# Altium integrated library Linear Technology Power Management uModule Regulators.IntLib: 166 symbols (part 38 of 67)
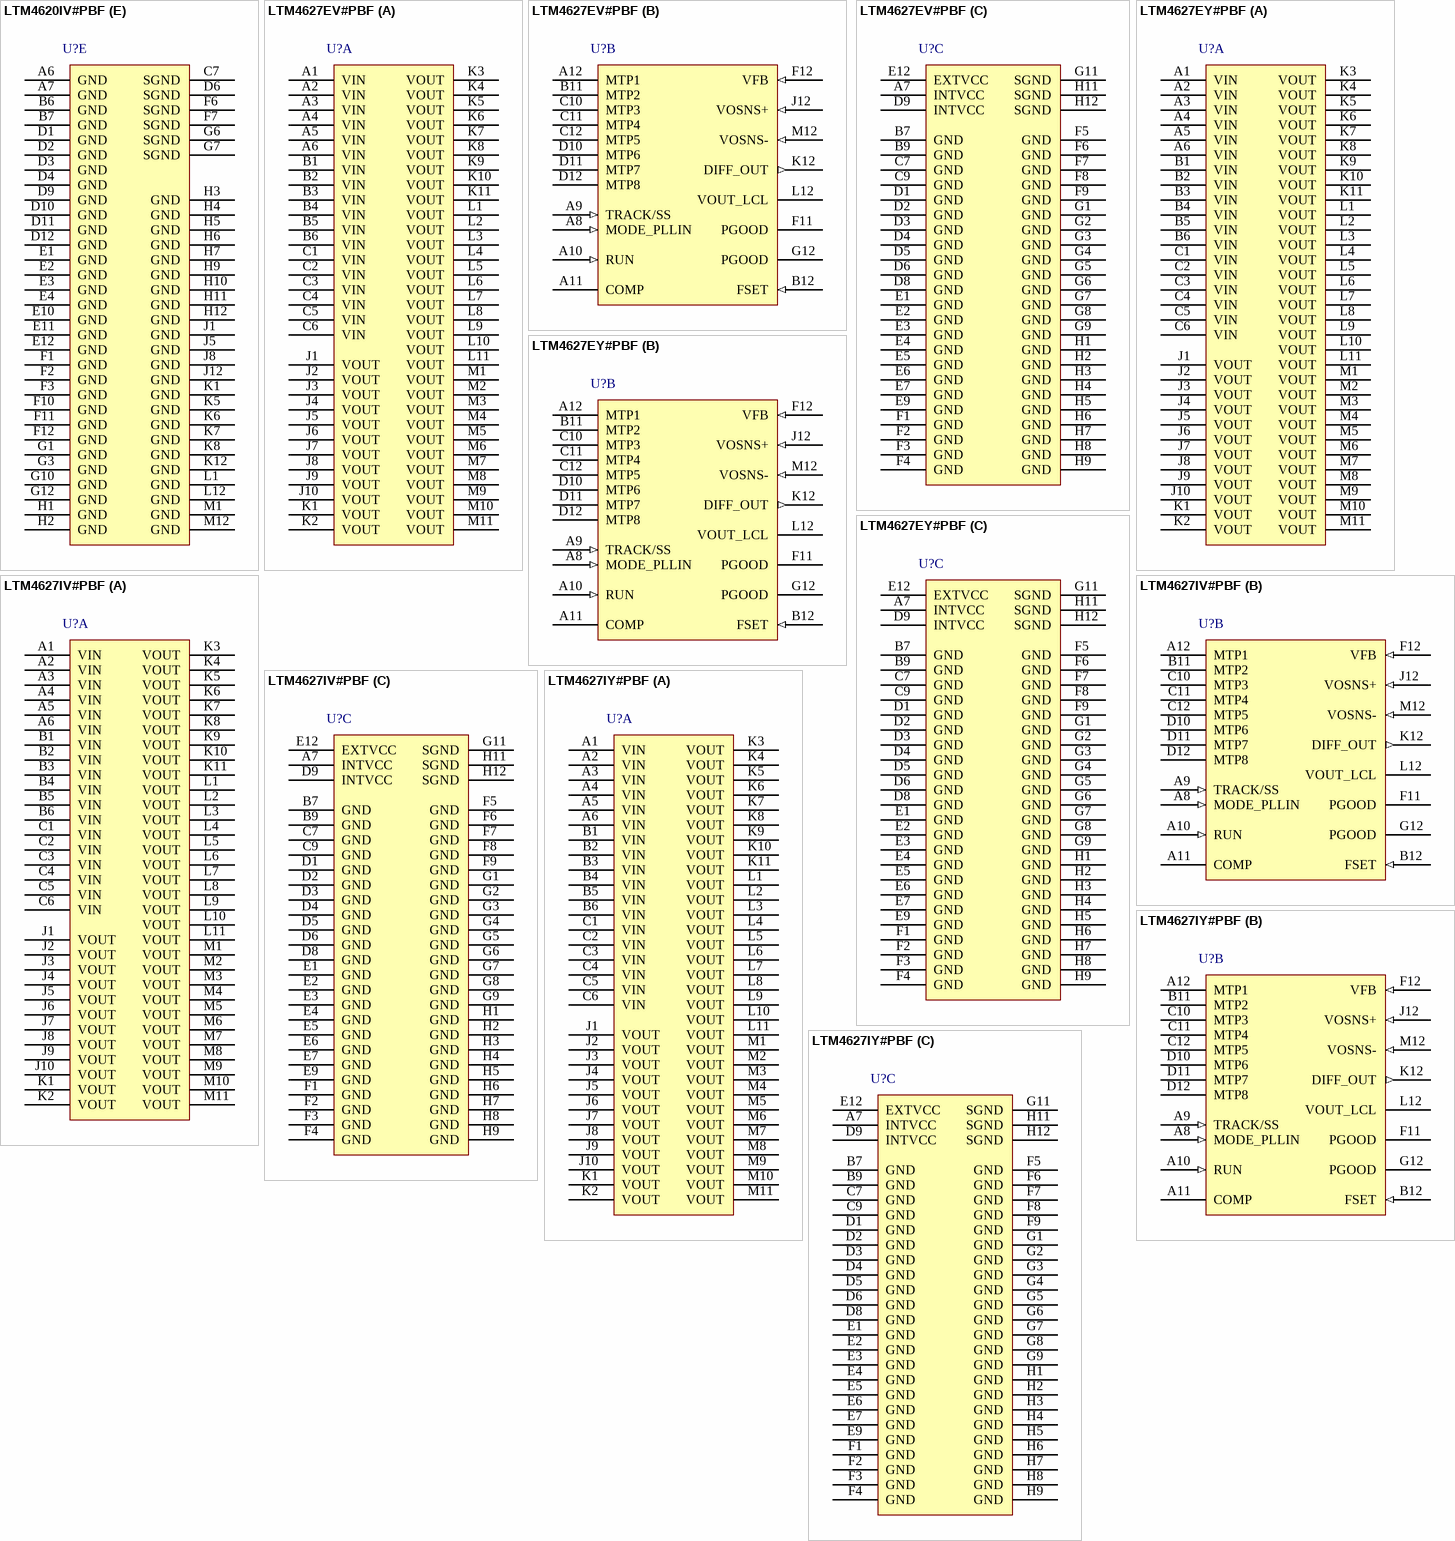
[diagram p64: symbols LTM4620IV#PBF to LTM4627IY#PBF]

## LTM4627EV#PBF
designator U?
15 A DC/DC uModule Regulator, 133-pin LGA, -40 to 125 degC, Pb-Free, Tray; Manufacturer: Linear Technology; PartNumber: LTM4627EV#PBF; Extended Temp: E, I, MP; Frequency Adjust Range: 250kHz - 800kHz; Frequency Sync Range: 400kHz - 800kHz; Frequency(kHz): 500; Ishutdown(uA): 40; Isupply(mA): 17; Number of Outputs: 1; Output Current(A): 15; Switch Current(A): 50; Synchronous: yes; Topology: Buck; Vin Max(V): 20; Vin Min(V): 4.5; Vout Max(V): 5; Vout Min(V): 0.6; DatasheetVersion: Rev. B; PackageVersion: Rev. A, 02/2013; PackageReference: LGA-133; PackageDescription: 133-Pin LGA, Body 15 x 15 mm, Pitch 1.27 mm; Supplier 1: Digi-Key; Supplier Part Number 1: LTM4627EV#PBF-ND; Supplier 2: Farnell; Supplier Part Number 2: 1847469; Supplier 3: Newark; Supplier Part Number 3: 99R2730; Packing: Tray; RoHS: TRUE; Mounting Technology: Surface Mount; Code_JEDEC: MO-222; ComponentLink1Description: Manufacturer URL; ComponentLink1URL: http://www.linear.com/; ComponentLink2Description: Datasheet; ComponentLink2URL: http://cds.linear.com/docs/en/datasheet/4627fb.pdf; ComponentLink3Description: Package Specification; ComponentLink3URL: http://cds.linear.com/docs/en/packaging/05081777_A_lga133.pdf
footprint LT-LGA-133-05-08-1777_V (LGA, 133-Leads, Body 15x15mm, Pitch 1.27mm)
part A pins: A1 VIN (power) "Power Input Pins.", A2 VIN (power) "Power Input Pins.", A3 VIN (power) "Power Input Pins.", A4 VIN (power) "Power Input Pins.", A5 VIN (power) "Power Input Pins.", A6 VIN (power) "Power Input Pins.", B1 VIN (power) "Power Input Pins. Apply input voltage between these pins and GND pins.", B2 VIN (power) "Power Input Pins. Apply input voltage between these pins and GND pins.", B3 VIN (power) "Power Input Pins. Apply input voltage between these pins and GND pins.", B4 VIN (power) "Power Input Pins. Apply input voltage between these pins and GND pins.", B5 VIN (power) "Power Input Pins. Apply input voltage between these pins and GND pins.", B6 VIN (power) "Power Input Pins. Apply input voltage between these pins and GND pins.", C1 VIN (power) "Power Input Pins. Apply input voltage between these pins and GND pins.", C2 VIN (power) "Power Input Pins. Apply input voltage between these pins and GND pins.", C3 VIN (power) "Power Input Pins. Apply input voltage between these pins and GND pins.", C4 VIN (power) "Power Input Pins. Apply input voltage between these pins and GND pins.", C5 VIN (power) "Power Input Pins. Apply input voltage between these pins and GND pins.", C6 VIN (power) "Power Input Pins. Apply input voltage between these pins and GND pins.", J1 VOUT (power) "Power Output Pins. Apply output load between these pins and GND pins.", J2 VOUT (power) "Power Output Pins. Apply output load between these pins and GND pins.", J3 VOUT (power) "Power Output Pins. Apply output load between these pins and GND pins.", J4 VOUT (power) "Power Output Pins. Apply output load between these pins and GND pins.", J5 VOUT (power) "Power Output Pins. Apply output load between these pins and GND pins.", J6 VOUT (power) "Power Output Pins. Apply output load between these pins and GND pins.", J7 VOUT (power) "Power Output Pins. Apply output load between these pins and GND pins.", J8 VOUT (power) "Power Output Pins. Apply output load between these pins and GND pins.", J9 VOUT (power) "Power Output Pins. Apply output load between these pins and GND pins.", J10 VOUT (power) "Power Output Pins. Apply output load between these pins and GND pins.", K1 VOUT (power) "Power Output Pins. Apply output load between these pins and GND pins.", K2 VOUT (power) "Power Output Pins. Apply output load between these pins and GND pins.", K3 VOUT (power) "Power Output Pins. Apply output load between these pins and GND pins.", K4 VOUT (power) "Power Output Pins. Apply output load between these pins and GND pins.", K5 VOUT (power) "Power Output Pins. Apply output load between these pins and GND pins.", K6 VOUT (power) "Power Output Pins. Apply output load between these pins and GND pins.", K7 VOUT (power) "Power Output Pins. Apply output load between these pins and GND pins.", K8 VOUT (power) "Power Output Pins. Apply output load between these pins and GND pins.", K9 VOUT (power) "Power Output Pins. Apply output load between these pins and GND pins.", K10 VOUT (power) "Power Output Pins. Apply output load between these pins and GND pins.", K11 VOUT (power) "Power Output Pins. Apply output load between these pins and GND pins.", L1 VOUT (power) "Power Output Pins. Apply output load between these pins and GND pins.", L2 VOUT (power) "Power Output Pins. Apply output load between these pins and GND pins.", L3 VOUT (power) "Power Output Pins. Apply output load between these pins and GND pins.", L4 VOUT (power) "Power Output Pins. Apply output load between these pins and GND pins.", L5 VOUT (power) "Power Output Pins. Apply output load between these pins and GND pins.", L6 VOUT (power) "Power Output Pins. Apply output load between these pins and GND pins.", L7 VOUT (power) "Power Output Pins. Apply output load between these pins and GND pins.", L8 VOUT (power) "Power Output Pins. Apply output load between these pins and GND pins.", L9 VOUT (power) "Power Output Pins. Apply output load between these pins and GND pins.", L10 VOUT (power) "Power Output Pins. Apply output load between these pins and GND pins.", L11 VOUT (power) "Power Output Pins. Apply output load between these pins and GND pins.", M1 VOUT (power) "Power Output Pins. Apply output load between these pins and GND pins.", M2 VOUT (power) "Power Output Pins. Apply output load between these pins and GND pins.", M3 VOUT (power) "Power Output Pins. Apply output load between these pins and GND pins.", M4 VOUT (power) "Power Output Pins. Apply output load between these pins and GND pins.", M5 VOUT (power) "Power Output Pins. Apply output load between these pins and GND pins.", M6 VOUT (power) "Power Output Pins. Apply output load between these pins and GND pins.", M7 VOUT (power) "Power Output Pins. Apply output load between these pins and GND pins.", M8 VOUT (power) "Power Output Pins. Apply output load between these pins and GND pins.", M9 VOUT (power) "Power Output Pins. Apply output load between these pins and GND pins.", M10 VOUT (power) "Power Output Pins. Apply output load between these pins and GND pins.", M11 VOUT (power) "Power Output Pins. Apply output load between these pins and GND pins."
part B pins: A8 MODE_PLLIN (in) "Forced Continuous Mode, Burst Mode Operation, or Pulse-Skipping Mode Selection Pin and External Synchronization Input to Phase Detector Pin.", A9 TRACK/SS (in), A10 RUN (in) "Run Control Pin. A voltage above 1.4V will turn on the module. A 5.1V Zener diode to ground is internal to the module for limiting the voltage on the RUN pin to 5V, and allowing a pull up resistor to VIN for enabling the (See Datasheet)", A11 COMP "Current Control Threshold and Error Amplifier Compensation Point. The current comparator threshold increases with this control voltage. Tie all COMP pins together for parallel operation. The device is internally compensated.", A12 MTP1 "Extra mounting pads used for increased solder integrity strength.", B11 MTP2 "Extra mounting pads used for increased solder integrity strength.", B12 FSET (in) "A resistor can be applied from this pin to ground to set the operating frequency, or a DC voltage can be applied to set the frequency. See the Applications Information section.", C10 MTP3 "Extra mounting pads used for increased solder integrity strength.", C11 MTP4 "Extra mounting pads used for increased solder integrity strength.", C12 MTP5 "Extra mounting pads used for increased solder integrity strength.", D10 MTP6 "Extra mounting pads used for increased solder integrity strength.", D11 MTP7 "Extra mounting pads used for increased solder integrity strength.", D12 MTP8 "Extra mounting pads used for increased solder integrity strength.", F11 PGOOD (oc) "Output Voltage Power Good Indicator.", F12 VFB (in) "The Negative Input of the Error Amplifier. Internally, this pin is connected to VOUT_LCL with a 60.4k precision resistor. Different output voltages can be programmed with an additional resistor between the VFB and GND pins. (See Datasheet)", G12 PGOOD (oc) "Output Voltage Power Good Indicator.", J12 VOSNS+ (in) "(+) Input to the Remote Sense Amplifier. This pin connects to the output remote sense point. The remote sense amplifier is used for VOUT <= 3.3V. Connect to ground when not used.", K12 DIFF_OUT (out) "Output of the Remote Sense Amplifier. This pin connects to the VOUT_LCL pin for remote sense applications. Otherwise float when not used.", L12 VOUT_LCL "This pin connects to VOUT through a 1M resistor and to VFB with a 60.4k resistor. The remote sense amplifier output DIFFVOUT is connected to VOUT_LCL, and drives the 60.4k top feedback resistor in remote sensing applications.(See Datasheet)", M12 VOSNS- (in) "(-) Input to the Remote Sense Amplifier. This pin connects to the ground remote sense point. The remote sense amplifier is used for VOUT = 3.3V. Connect to ground when not used."
part C pins: A7 INTVCC (power) "Internal 5V LDO for Driving the Control Circuitry and the Power MOSFET Drivers. Both pins are internally connected.", B7 GND (power) "Power Ground Pins for Both Input and Output Returns.", B9 GND (power) "Power Ground Pins for Both Input and Output Returns.", C7 GND (power) "Power Ground Pins for Both Input and Output Returns.", C9 GND (power) "Power Ground Pins for Both Input and Output Returns.", D1 GND (power) "Power Ground Pins for Both Input and Output Returns.", D2 GND (power) "Power Ground Pins for Both Input and Output Returns.", D3 GND (power) "Power Ground Pins for Both Input and Output Returns.", D4 GND (power) "Power Ground Pins for Both Input and Output Returns.", D5 GND (power) "Power Ground Pins for Both Input and Output Returns.", D6 GND (power) "Power Ground Pins for Both Input and Output Returns.", D8 GND (power) "Power Ground Pins for Both Input and Output Returns.", D9 INTVCC (power) "Internal 5V LDO for Driving the Control Circuitry and the Power MOSFET Drivers. Both pins are internally connected.", E1 GND (power) "Power Ground Pins for Both Input and Output Returns.", E2 GND (power) "Power Ground Pins for Both Input and Output Returns.", E3 GND (power) "Power Ground Pins for Both Input and Output Returns.", E4 GND (power) "Power Ground Pins for Both Input and Output Returns.", E5 GND (power) "Power Ground Pins for Both Input and Output Returns.", E6 GND (power) "Power Ground Pins for Both Input and Output Returns.", E7 GND (power) "Power Ground Pins for Both Input and Output Returns.", E9 GND (power) "Power Ground Pins for Both Input and Output Returns.", E12 EXTVCC (power) "External power input to an internal control switch allows an external source greater than 4.7V, but less than 6V to supply IC power and bypass the internal INTVCC LDO. EXTVCC must be less than VIN at all times during (See Datasheet)", F1 GND (power) "Power Ground Pins for Both Input and Output Returns.", F2 GND (power) "Power Ground Pins for Both Input and Output Returns.", F3 GND (power) "Power Ground Pins for Both Input and Output Returns.", F4 GND (power) "Power Ground Pins for Both Input and Output Returns.", F5 GND (power) "Power Ground Pins for Both Input and Output Returns.", F6 GND (power) "Power Ground Pins for Both Input and Output Returns.", F7 GND (power) "Power Ground Pins for Both Input and Output Returns.", F8 GND (power) "Power Ground Pins for Both Input and Output Returns.", F9 GND (power) "Power Ground Pins for Both Input and Output Returns.", G1 GND (power) "Power Ground Pins for Both Input and Output Returns.", G2 GND (power) "Power Ground Pins for Both Input and Output Returns.", G3 GND (power) "Power Ground Pins for Both Input and Output Returns.", G4 GND (power) "Power Ground Pins for Both Input and Output Returns.", G5 GND (power) "Power Ground Pins for Both Input and Output Returns.", G6 GND (power) "Power Ground Pins for Both Input and Output Returns.", G7 GND (power) "Power Ground Pins for Both Input and Output Returns.", G8 GND (power) "Power Ground Pins for Both Input and Output Returns.", G9 GND (power) "Power Ground Pins for Both Input and Output Returns.", G11 SGND (power) "Signal Ground Pin. Return ground path for all analog and low power circuitry. Tie a single connection to the output capacitor GND in the application. See the layout guidelines in Figure 17.", H1 GND (power) "Power Ground Pins for Both Input and Output Returns.", H2 GND (power) "Power Ground Pins for Both Input and Output Returns.", H3 GND (power) "Power Ground Pins for Both Input and Output Returns.", H4 GND (power) "Power Ground Pins for Both Input and Output Returns.", H5 GND (power) "Power Ground Pins for Both Input and Output Returns.", H6 GND (power) "Power Ground Pins for Both Input and Output Returns.", H7 GND (power) "Power Ground Pins for Both Input and Output Returns.", H8 GND (power) "Power Ground Pins for Both Input and Output Returns.", H9 GND (power) "Power Ground Pins for Both Input and Output Returns.", H11 SGND (power) "Signal Ground Pin. Return ground path for all analog and low power circuitry. Tie a single connection to the output capacitor GND in the application. See the layout guidelines in Figure 17.", H12 SGND (power) "Signal Ground Pin. Return ground path for all analog and low power circuitry. Tie a single connection to the output capacitor GND in the application. See the layout guidelines in Figure 17."

## LTM4627EY#PBF
designator U?
15 A DC/DC uModule Regulator, 133-pin BGA, -40 to 125 degC, Pb-Free, Tray; Manufacturer: Linear Technology; PartNumber: LTM4627EY#PBF; Extended Temp: E, I, MP; Frequency Adjust Range: 250kHz - 800kHz; Frequency Sync Range: 400kHz - 800kHz; Frequency(kHz): 500; Ishutdown(uA): 40; Isupply(mA): 17; Number of Outputs: 1; Output Current(A): 15; Switch Current(A): 50; Synchronous: yes; Topology: Buck; Vin Max(V): 20; Vin Min(V): 4.5; Vout Max(V): 5; Vout Min(V): 0.6; DatasheetVersion: Rev. B; PackageVersion: Rev. A, 01/2013; PackageReference: BGA-133; PackageDescription: 133-Ball BGA, Body 15 x 15 mm, Pitch 1.27 mm; Supplier 1: Digi-Key; Supplier Part Number 1: LTM4627EY#PBF-ND; Supplier 2: Farnell; Supplier Part Number 2: 2068079; Supplier 3: Newark; Supplier Part Number 3: 78T3663; Packing: Tray; RoHS: TRUE; Mounting Technology: Surface Mount; Code_JEDEC: MS-028; ComponentLink1Description: Manufacturer URL; ComponentLink1URL: http://www.linear.com/; ComponentLink2Description: Datasheet; ComponentLink2URL: http://cds.linear.com/docs/en/datasheet/4627fb.pdf; ComponentLink3Description: Package Specification; ComponentLink3URL: http://cds.linear.com/docs/en/packaging/05081897_A_bga133.pdf
footprint LT-BGA-133-05-08-1897 (BGA, 133-Balls, Body 15x15mm, Pitch 1.27mm)
part A pins: A1 VIN (power) "Power Input Pins.", A2 VIN (power) "Power Input Pins.", A3 VIN (power) "Power Input Pins.", A4 VIN (power) "Power Input Pins.", A5 VIN (power) "Power Input Pins.", A6 VIN (power) "Power Input Pins.", B1 VIN (power) "Power Input Pins. Apply input voltage between these pins and GND pins.", B2 VIN (power) "Power Input Pins. Apply input voltage between these pins and GND pins.", B3 VIN (power) "Power Input Pins. Apply input voltage between these pins and GND pins.", B4 VIN (power) "Power Input Pins. Apply input voltage between these pins and GND pins.", B5 VIN (power) "Power Input Pins. Apply input voltage between these pins and GND pins.", B6 VIN (power) "Power Input Pins. Apply input voltage between these pins and GND pins.", C1 VIN (power) "Power Input Pins. Apply input voltage between these pins and GND pins.", C2 VIN (power) "Power Input Pins. Apply input voltage between these pins and GND pins.", C3 VIN (power) "Power Input Pins. Apply input voltage between these pins and GND pins.", C4 VIN (power) "Power Input Pins. Apply input voltage between these pins and GND pins.", C5 VIN (power) "Power Input Pins. Apply input voltage between these pins and GND pins.", C6 VIN (power) "Power Input Pins. Apply input voltage between these pins and GND pins.", J1 VOUT (power) "Power Output Pins. Apply output load between these pins and GND pins.", J2 VOUT (power) "Power Output Pins. Apply output load between these pins and GND pins.", J3 VOUT (power) "Power Output Pins. Apply output load between these pins and GND pins.", J4 VOUT (power) "Power Output Pins. Apply output load between these pins and GND pins.", J5 VOUT (power) "Power Output Pins. Apply output load between these pins and GND pins.", J6 VOUT (power) "Power Output Pins. Apply output load between these pins and GND pins.", J7 VOUT (power) "Power Output Pins. Apply output load between these pins and GND pins.", J8 VOUT (power) "Power Output Pins. Apply output load between these pins and GND pins.", J9 VOUT (power) "Power Output Pins. Apply output load between these pins and GND pins.", J10 VOUT (power) "Power Output Pins. Apply output load between these pins and GND pins.", K1 VOUT (power) "Power Output Pins. Apply output load between these pins and GND pins.", K2 VOUT (power) "Power Output Pins. Apply output load between these pins and GND pins.", K3 VOUT (power) "Power Output Pins. Apply output load between these pins and GND pins.", K4 VOUT (power) "Power Output Pins. Apply output load between these pins and GND pins.", K5 VOUT (power) "Power Output Pins. Apply output load between these pins and GND pins.", K6 VOUT (power) "Power Output Pins. Apply output load between these pins and GND pins.", K7 VOUT (power) "Power Output Pins. Apply output load between these pins and GND pins.", K8 VOUT (power) "Power Output Pins. Apply output load between these pins and GND pins.", K9 VOUT (power) "Power Output Pins. Apply output load between these pins and GND pins.", K10 VOUT (power) "Power Output Pins. Apply output load between these pins and GND pins.", K11 VOUT (power) "Power Output Pins. Apply output load between these pins and GND pins.", L1 VOUT (power) "Power Output Pins. Apply output load between these pins and GND pins.", L2 VOUT (power) "Power Output Pins. Apply output load between these pins and GND pins.", L3 VOUT (power) "Power Output Pins. Apply output load between these pins and GND pins.", L4 VOUT (power) "Power Output Pins. Apply output load between these pins and GND pins.", L5 VOUT (power) "Power Output Pins. Apply output load between these pins and GND pins.", L6 VOUT (power) "Power Output Pins. Apply output load between these pins and GND pins.", L7 VOUT (power) "Power Output Pins. Apply output load between these pins and GND pins.", L8 VOUT (power) "Power Output Pins. Apply output load between these pins and GND pins.", L9 VOUT (power) "Power Output Pins. Apply output load between these pins and GND pins.", L10 VOUT (power) "Power Output Pins. Apply output load between these pins and GND pins.", L11 VOUT (power) "Power Output Pins. Apply output load between these pins and GND pins.", M1 VOUT (power) "Power Output Pins. Apply output load between these pins and GND pins.", M2 VOUT (power) "Power Output Pins. Apply output load between these pins and GND pins.", M3 VOUT (power) "Power Output Pins. Apply output load between these pins and GND pins.", M4 VOUT (power) "Power Output Pins. Apply output load between these pins and GND pins.", M5 VOUT (power) "Power Output Pins. Apply output load between these pins and GND pins.", M6 VOUT (power) "Power Output Pins. Apply output load between these pins and GND pins.", M7 VOUT (power) "Power Output Pins. Apply output load between these pins and GND pins.", M8 VOUT (power) "Power Output Pins. Apply output load between these pins and GND pins.", M9 VOUT (power) "Power Output Pins. Apply output load between these pins and GND pins.", M10 VOUT (power) "Power Output Pins. Apply output load between these pins and GND pins.", M11 VOUT (power) "Power Output Pins. Apply output load between these pins and GND pins."
part B pins: A8 MODE_PLLIN (in) "Forced Continuous Mode, Burst Mode Operation, or Pulse-Skipping Mode Selection Pin and External Synchronization Input to Phase Detector Pin.", A9 TRACK/SS (in), A10 RUN (in) "Run Control Pin. A voltage above 1.4V will turn on the module. A 5.1V Zener diode to ground is internal to the module for limiting the voltage on the RUN pin to 5V, and allowing a pull up resistor to VIN for enabling the (See Datasheet)", A11 COMP "Current Control Threshold and Error Amplifier Compensation Point. The current comparator threshold increases with this control voltage. Tie all COMP pins together for parallel operation. The device is internally compensated.", A12 MTP1 "Extra mounting pads used for increased solder integrity strength.", B11 MTP2 "Extra mounting pads used for increased solder integrity strength.", B12 FSET (in) "A resistor can be applied from this pin to ground to set the operating frequency, or a DC voltage can be applied to set the frequency. See the Applications Information section.", C10 MTP3 "Extra mounting pads used for increased solder integrity strength.", C11 MTP4 "Extra mounting pads used for increased solder integrity strength.", C12 MTP5 "Extra mounting pads used for increased solder integrity strength.", D10 MTP6 "Extra mounting pads used for increased solder integrity strength.", D11 MTP7 "Extra mounting pads used for increased solder integrity strength.", D12 MTP8 "Extra mounting pads used for increased solder integrity strength.", F11 PGOOD (oc) "Output Voltage Power Good Indicator.", F12 VFB (in) "The Negative Input of the Error Amplifier. Internally, this pin is connected to VOUT_LCL with a 60.4k precision resistor. Different output voltages can be programmed with an additional resistor between the VFB and GND pins. (See Datasheet)", G12 PGOOD (oc) "Output Voltage Power Good Indicator.", J12 VOSNS+ (in) "(+) Input to the Remote Sense Amplifier. This pin connects to the output remote sense point. The remote sense amplifier is used for VOUT <= 3.3V. Connect to ground when not used.", K12 DIFF_OUT (out) "Output of the Remote Sense Amplifier. This pin connects to the VOUT_LCL pin for remote sense applications. Otherwise float when not used.", L12 VOUT_LCL "This pin connects to VOUT through a 1M resistor and to VFB with a 60.4k resistor. The remote sense amplifier output DIFFVOUT is connected to VOUT_LCL, and drives the 60.4k top feedback resistor in remote sensing applications.(See Datasheet)", M12 VOSNS- (in) "(-) Input to the Remote Sense Amplifier. This pin connects to the ground remote sense point. The remote sense amplifier is used for VOUT = 3.3V. Connect to ground when not used."
part C pins: A7 INTVCC (power) "Internal 5V LDO for Driving the Control Circuitry and the Power MOSFET Drivers. Both pins are internally connected.", B7 GND (power) "Power Ground Pins for Both Input and Output Returns.", B9 GND (power) "Power Ground Pins for Both Input and Output Returns.", C7 GND (power) "Power Ground Pins for Both Input and Output Returns.", C9 GND (power) "Power Ground Pins for Both Input and Output Returns.", D1 GND (power) "Power Ground Pins for Both Input and Output Returns.", D2 GND (power) "Power Ground Pins for Both Input and Output Returns.", D3 GND (power) "Power Ground Pins for Both Input and Output Returns.", D4 GND (power) "Power Ground Pins for Both Input and Output Returns.", D5 GND (power) "Power Ground Pins for Both Input and Output Returns.", D6 GND (power) "Power Ground Pins for Both Input and Output Returns.", D8 GND (power) "Power Ground Pins for Both Input and Output Returns.", D9 INTVCC (power) "Internal 5V LDO for Driving the Control Circuitry and the Power MOSFET Drivers. Both pins are internally connected.", E1 GND (power) "Power Ground Pins for Both Input and Output Returns.", E2 GND (power) "Power Ground Pins for Both Input and Output Returns.", E3 GND (power) "Power Ground Pins for Both Input and Output Returns.", E4 GND (power) "Power Ground Pins for Both Input and Output Returns.", E5 GND (power) "Power Ground Pins for Both Input and Output Returns.", E6 GND (power) "Power Ground Pins for Both Input and Output Returns.", E7 GND (power) "Power Ground Pins for Both Input and Output Returns.", E9 GND (power) "Power Ground Pins for Both Input and Output Returns.", E12 EXTVCC (power) "External power input to an internal control switch allows an external source greater than 4.7V, but less than 6V to supply IC power and bypass the internal INTVCC LDO. EXTVCC must be less than VIN at all times during (See Datasheet)", F1 GND (power) "Power Ground Pins for Both Input and Output Returns.", F2 GND (power) "Power Ground Pins for Both Input and Output Returns.", F3 GND (power) "Power Ground Pins for Both Input and Output Returns.", F4 GND (power) "Power Ground Pins for Both Input and Output Returns.", F5 GND (power) "Power Ground Pins for Both Input and Output Returns.", F6 GND (power) "Power Ground Pins for Both Input and Output Returns.", F7 GND (power) "Power Ground Pins for Both Input and Output Returns.", F8 GND (power) "Power Ground Pins for Both Input and Output Returns.", F9 GND (power) "Power Ground Pins for Both Input and Output Returns.", G1 GND (power) "Power Ground Pins for Both Input and Output Returns.", G2 GND (power) "Power Ground Pins for Both Input and Output Returns.", G3 GND (power) "Power Ground Pins for Both Input and Output Returns.", G4 GND (power) "Power Ground Pins for Both Input and Output Returns.", G5 GND (power) "Power Ground Pins for Both Input and Output Returns.", G6 GND (power) "Power Ground Pins for Both Input and Output Returns.", G7 GND (power) "Power Ground Pins for Both Input and Output Returns.", G8 GND (power) "Power Ground Pins for Both Input and Output Returns.", G9 GND (power) "Power Ground Pins for Both Input and Output Returns.", G11 SGND (power) "Signal Ground Pin. Return ground path for all analog and low power circuitry. Tie a single connection to the output capacitor GND in the application. See the layout guidelines in Figure 17.", H1 GND (power) "Power Ground Pins for Both Input and Output Returns.", H2 GND (power) "Power Ground Pins for Both Input and Output Returns.", H3 GND (power) "Power Ground Pins for Both Input and Output Returns.", H4 GND (power) "Power Ground Pins for Both Input and Output Returns.", H5 GND (power) "Power Ground Pins for Both Input and Output Returns.", H6 GND (power) "Power Ground Pins for Both Input and Output Returns.", H7 GND (power) "Power Ground Pins for Both Input and Output Returns.", H8 GND (power) "Power Ground Pins for Both Input and Output Returns.", H9 GND (power) "Power Ground Pins for Both Input and Output Returns.", H11 SGND (power) "Signal Ground Pin. Return ground path for all analog and low power circuitry. Tie a single connection to the output capacitor GND in the application. See the layout guidelines in Figure 17.", H12 SGND (power) "Signal Ground Pin. Return ground path for all analog and low power circuitry. Tie a single connection to the output capacitor GND in the application. See the layout guidelines in Figure 17."

## LTM4627IV#PBF
designator U?
15 A DC/DC uModule Regulator, 133-pin LGA, -40 to 125 degC, Pb-Free, Tray; Manufacturer: Linear Technology; PartNumber: LTM4627IV#PBF; Extended Temp: E, I, MP; Frequency Adjust Range: 250kHz - 800kHz; Frequency Sync Range: 400kHz - 800kHz; Frequency(kHz): 500; Ishutdown(uA): 40; Isupply(mA): 17; Number of Outputs: 1; Output Current(A): 15; Switch Current(A): 50; Synchronous: yes; Topology: Buck; Vin Max(V): 20; Vin Min(V): 4.5; Vout Max(V): 5; Vout Min(V): 0.6; DatasheetVersion: Rev. B; PackageVersion: Rev. A, 02/2013; PackageReference: LGA-133; PackageDescription: 133-Pin LGA, Body 15 x 15 mm, Pitch 1.27 mm; Supplier 1: Digi-Key; Supplier Part Number 1: LTM4627IV#PBF-ND; Supplier 2: Farnell; Supplier Part Number 2: 1847470; Supplier 3: Newark; Supplier Part Number 3: 99R2731; Packing: Tray; RoHS: TRUE; Mounting Technology: Surface Mount; Code_JEDEC: MO-222; ComponentLink1Description: Manufacturer URL; ComponentLink1URL: http://www.linear.com/; ComponentLink2Description: Datasheet; ComponentLink2URL: http://cds.linear.com/docs/en/datasheet/4627fb.pdf; ComponentLink3Description: Package Specification; ComponentLink3URL: http://cds.linear.com/docs/en/packaging/05081777_A_lga133.pdf
footprint LT-LGA-133-05-08-1777_V (LGA, 133-Leads, Body 15x15mm, Pitch 1.27mm)
part A pins: A1 VIN (power) "Power Input Pins.", A2 VIN (power) "Power Input Pins.", A3 VIN (power) "Power Input Pins.", A4 VIN (power) "Power Input Pins.", A5 VIN (power) "Power Input Pins.", A6 VIN (power) "Power Input Pins.", B1 VIN (power) "Power Input Pins. Apply input voltage between these pins and GND pins.", B2 VIN (power) "Power Input Pins. Apply input voltage between these pins and GND pins.", B3 VIN (power) "Power Input Pins. Apply input voltage between these pins and GND pins.", B4 VIN (power) "Power Input Pins. Apply input voltage between these pins and GND pins.", B5 VIN (power) "Power Input Pins. Apply input voltage between these pins and GND pins.", B6 VIN (power) "Power Input Pins. Apply input voltage between these pins and GND pins.", C1 VIN (power) "Power Input Pins. Apply input voltage between these pins and GND pins.", C2 VIN (power) "Power Input Pins. Apply input voltage between these pins and GND pins.", C3 VIN (power) "Power Input Pins. Apply input voltage between these pins and GND pins.", C4 VIN (power) "Power Input Pins. Apply input voltage between these pins and GND pins.", C5 VIN (power) "Power Input Pins. Apply input voltage between these pins and GND pins.", C6 VIN (power) "Power Input Pins. Apply input voltage between these pins and GND pins.", J1 VOUT (power) "Power Output Pins. Apply output load between these pins and GND pins.", J2 VOUT (power) "Power Output Pins. Apply output load between these pins and GND pins.", J3 VOUT (power) "Power Output Pins. Apply output load between these pins and GND pins.", J4 VOUT (power) "Power Output Pins. Apply output load between these pins and GND pins.", J5 VOUT (power) "Power Output Pins. Apply output load between these pins and GND pins.", J6 VOUT (power) "Power Output Pins. Apply output load between these pins and GND pins.", J7 VOUT (power) "Power Output Pins. Apply output load between these pins and GND pins.", J8 VOUT (power) "Power Output Pins. Apply output load between these pins and GND pins.", J9 VOUT (power) "Power Output Pins. Apply output load between these pins and GND pins.", J10 VOUT (power) "Power Output Pins. Apply output load between these pins and GND pins.", K1 VOUT (power) "Power Output Pins. Apply output load between these pins and GND pins.", K2 VOUT (power) "Power Output Pins. Apply output load between these pins and GND pins.", K3 VOUT (power) "Power Output Pins. Apply output load between these pins and GND pins.", K4 VOUT (power) "Power Output Pins. Apply output load between these pins and GND pins.", K5 VOUT (power) "Power Output Pins. Apply output load between these pins and GND pins.", K6 VOUT (power) "Power Output Pins. Apply output load between these pins and GND pins.", K7 VOUT (power) "Power Output Pins. Apply output load between these pins and GND pins.", K8 VOUT (power) "Power Output Pins. Apply output load between these pins and GND pins.", K9 VOUT (power) "Power Output Pins. Apply output load between these pins and GND pins.", K10 VOUT (power) "Power Output Pins. Apply output load between these pins and GND pins.", K11 VOUT (power) "Power Output Pins. Apply output load between these pins and GND pins.", L1 VOUT (power) "Power Output Pins. Apply output load between these pins and GND pins.", L2 VOUT (power) "Power Output Pins. Apply output load between these pins and GND pins.", L3 VOUT (power) "Power Output Pins. Apply output load between these pins and GND pins.", L4 VOUT (power) "Power Output Pins. Apply output load between these pins and GND pins.", L5 VOUT (power) "Power Output Pins. Apply output load between these pins and GND pins.", L6 VOUT (power) "Power Output Pins. Apply output load between these pins and GND pins.", L7 VOUT (power) "Power Output Pins. Apply output load between these pins and GND pins.", L8 VOUT (power) "Power Output Pins. Apply output load between these pins and GND pins.", L9 VOUT (power) "Power Output Pins. Apply output load between these pins and GND pins.", L10 VOUT (power) "Power Output Pins. Apply output load between these pins and GND pins.", L11 VOUT (power) "Power Output Pins. Apply output load between these pins and GND pins.", M1 VOUT (power) "Power Output Pins. Apply output load between these pins and GND pins.", M2 VOUT (power) "Power Output Pins. Apply output load between these pins and GND pins.", M3 VOUT (power) "Power Output Pins. Apply output load between these pins and GND pins.", M4 VOUT (power) "Power Output Pins. Apply output load between these pins and GND pins.", M5 VOUT (power) "Power Output Pins. Apply output load between these pins and GND pins.", M6 VOUT (power) "Power Output Pins. Apply output load between these pins and GND pins.", M7 VOUT (power) "Power Output Pins. Apply output load between these pins and GND pins.", M8 VOUT (power) "Power Output Pins. Apply output load between these pins and GND pins.", M9 VOUT (power) "Power Output Pins. Apply output load between these pins and GND pins.", M10 VOUT (power) "Power Output Pins. Apply output load between these pins and GND pins.", M11 VOUT (power) "Power Output Pins. Apply output load between these pins and GND pins."
part B pins: A8 MODE_PLLIN (in) "Forced Continuous Mode, Burst Mode Operation, or Pulse-Skipping Mode Selection Pin and External Synchronization Input to Phase Detector Pin.", A9 TRACK/SS (in), A10 RUN (in) "Run Control Pin. A voltage above 1.4V will turn on the module. A 5.1V Zener diode to ground is internal to the module for limiting the voltage on the RUN pin to 5V, and allowing a pull up resistor to VIN for enabling the (See Datasheet)", A11 COMP "Current Control Threshold and Error Amplifier Compensation Point. The current comparator threshold increases with this control voltage. Tie all COMP pins together for parallel operation. The device is internally compensated.", A12 MTP1 "Extra mounting pads used for increased solder integrity strength.", B11 MTP2 "Extra mounting pads used for increased solder integrity strength.", B12 FSET (in) "A resistor can be applied from this pin to ground to set the operating frequency, or a DC voltage can be applied to set the frequency. See the Applications Information section.", C10 MTP3 "Extra mounting pads used for increased solder integrity strength.", C11 MTP4 "Extra mounting pads used for increased solder integrity strength.", C12 MTP5 "Extra mounting pads used for increased solder integrity strength.", D10 MTP6 "Extra mounting pads used for increased solder integrity strength.", D11 MTP7 "Extra mounting pads used for increased solder integrity strength.", D12 MTP8 "Extra mounting pads used for increased solder integrity strength.", F11 PGOOD (oc) "Output Voltage Power Good Indicator.", F12 VFB (in) "The Negative Input of the Error Amplifier. Internally, this pin is connected to VOUT_LCL with a 60.4k precision resistor. Different output voltages can be programmed with an additional resistor between the VFB and GND pins. (See Datasheet)", G12 PGOOD (oc) "Output Voltage Power Good Indicator.", J12 VOSNS+ (in) "(+) Input to the Remote Sense Amplifier. This pin connects to the output remote sense point. The remote sense amplifier is used for VOUT <= 3.3V. Connect to ground when not used.", K12 DIFF_OUT (out) "Output of the Remote Sense Amplifier. This pin connects to the VOUT_LCL pin for remote sense applications. Otherwise float when not used.", L12 VOUT_LCL "This pin connects to VOUT through a 1M resistor and to VFB with a 60.4k resistor. The remote sense amplifier output DIFFVOUT is connected to VOUT_LCL, and drives the 60.4k top feedback resistor in remote sensing applications.(See Datasheet)", M12 VOSNS- (in) "(-) Input to the Remote Sense Amplifier. This pin connects to the ground remote sense point. The remote sense amplifier is used for VOUT = 3.3V. Connect to ground when not used."
part C pins: A7 INTVCC (power) "Internal 5V LDO for Driving the Control Circuitry and the Power MOSFET Drivers. Both pins are internally connected.", B7 GND (power) "Power Ground Pins for Both Input and Output Returns.", B9 GND (power) "Power Ground Pins for Both Input and Output Returns.", C7 GND (power) "Power Ground Pins for Both Input and Output Returns.", C9 GND (power) "Power Ground Pins for Both Input and Output Returns.", D1 GND (power) "Power Ground Pins for Both Input and Output Returns.", D2 GND (power) "Power Ground Pins for Both Input and Output Returns.", D3 GND (power) "Power Ground Pins for Both Input and Output Returns.", D4 GND (power) "Power Ground Pins for Both Input and Output Returns.", D5 GND (power) "Power Ground Pins for Both Input and Output Returns.", D6 GND (power) "Power Ground Pins for Both Input and Output Returns.", D8 GND (power) "Power Ground Pins for Both Input and Output Returns.", D9 INTVCC (power) "Internal 5V LDO for Driving the Control Circuitry and the Power MOSFET Drivers. Both pins are internally connected.", E1 GND (power) "Power Ground Pins for Both Input and Output Returns.", E2 GND (power) "Power Ground Pins for Both Input and Output Returns.", E3 GND (power) "Power Ground Pins for Both Input and Output Returns.", E4 GND (power) "Power Ground Pins for Both Input and Output Returns.", E5 GND (power) "Power Ground Pins for Both Input and Output Returns.", E6 GND (power) "Power Ground Pins for Both Input and Output Returns.", E7 GND (power) "Power Ground Pins for Both Input and Output Returns.", E9 GND (power) "Power Ground Pins for Both Input and Output Returns.", E12 EXTVCC (power) "External power input to an internal control switch allows an external source greater than 4.7V, but less than 6V to supply IC power and bypass the internal INTVCC LDO. EXTVCC must be less than VIN at all times during (See Datasheet)", F1 GND (power) "Power Ground Pins for Both Input and Output Returns.", F2 GND (power) "Power Ground Pins for Both Input and Output Returns.", F3 GND (power) "Power Ground Pins for Both Input and Output Returns.", F4 GND (power) "Power Ground Pins for Both Input and Output Returns.", F5 GND (power) "Power Ground Pins for Both Input and Output Returns.", F6 GND (power) "Power Ground Pins for Both Input and Output Returns.", F7 GND (power) "Power Ground Pins for Both Input and Output Returns.", F8 GND (power) "Power Ground Pins for Both Input and Output Returns.", F9 GND (power) "Power Ground Pins for Both Input and Output Returns.", G1 GND (power) "Power Ground Pins for Both Input and Output Returns.", G2 GND (power) "Power Ground Pins for Both Input and Output Returns.", G3 GND (power) "Power Ground Pins for Both Input and Output Returns.", G4 GND (power) "Power Ground Pins for Both Input and Output Returns.", G5 GND (power) "Power Ground Pins for Both Input and Output Returns.", G6 GND (power) "Power Ground Pins for Both Input and Output Returns.", G7 GND (power) "Power Ground Pins for Both Input and Output Returns.", G8 GND (power) "Power Ground Pins for Both Input and Output Returns.", G9 GND (power) "Power Ground Pins for Both Input and Output Returns.", G11 SGND (power) "Signal Ground Pin. Return ground path for all analog and low power circuitry. Tie a single connection to the output capacitor GND in the application. See the layout guidelines in Figure 17.", H1 GND (power) "Power Ground Pins for Both Input and Output Returns.", H2 GND (power) "Power Ground Pins for Both Input and Output Returns.", H3 GND (power) "Power Ground Pins for Both Input and Output Returns.", H4 GND (power) "Power Ground Pins for Both Input and Output Returns.", H5 GND (power) "Power Ground Pins for Both Input and Output Returns.", H6 GND (power) "Power Ground Pins for Both Input and Output Returns.", H7 GND (power) "Power Ground Pins for Both Input and Output Returns.", H8 GND (power) "Power Ground Pins for Both Input and Output Returns.", H9 GND (power) "Power Ground Pins for Both Input and Output Returns.", H11 SGND (power) "Signal Ground Pin. Return ground path for all analog and low power circuitry. Tie a single connection to the output capacitor GND in the application. See the layout guidelines in Figure 17.", H12 SGND (power) "Signal Ground Pin. Return ground path for all analog and low power circuitry. Tie a single connection to the output capacitor GND in the application. See the layout guidelines in Figure 17."